# EAGLE library part CD4511BNSR (library SamacSys_Parts)
CMOS BCD-to-7-Segment LED Latch Decoder Drivers Source: Datasheet <http://www.ti.com/lit/gpn/cd4511b>
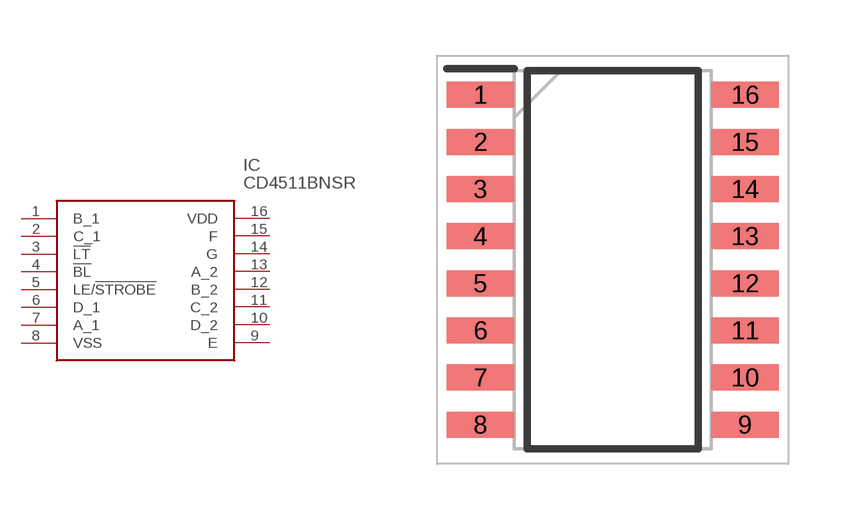
[diagram p8: symbol with the pads of SOIC127P780X200-16N; footprint SOIC127P780X200-16N]

Designator prefix IC

## CD4511BNSR (Description: CMOS BCD-to-7-Segment LED Latch Decoder Drivers; Height: 2mm; Manufacturer_Name: Texas Instruments; Manufacturer_Part_Number: CD4511BNSR; Mouser_Part_Number: 595-CD4511BNSR; Mouser_Price-Stock: https://www.mouser.co.uk/ProductDetail/Texas-Instruments/CD4511BNSR?qs=ZA235jQDfboI6gJbeV3XlQ%3D%3D)  [SOIC127P780X200-16N]
1  B_1
2  C_1
3  !LT
4  !BL
5  LE/!STROBE
6  D_1
7  A_1
8  VSS
9  E
10  D_2
11  C_2
12  B_2
13  A_2
14  G
15  F
16  VDD

## Footprint SOIC127P780X200-16N (pad centres in mm)
so-16+-+
smd 1.825 x 0.7: 1 -3.562,4.445; 2 -3.562,3.175; 3 -3.562,1.905; 4 -3.562,0.635; 5 -3.562,-0.635; 6 -3.562,-1.905; 7 -3.562,-3.175; 8 -3.562,-4.445; 9 3.562,-4.445; 10 3.562,-3.175; 11 3.562,-1.905; 12 3.562,-0.635; 13 3.562,0.635; 14 3.562,1.905; 15 3.562,3.175; 16 3.562,4.445